# Altium footprint library cmut_conn.PcbLib: 1 footprints
Each footprint in its own frame and in the unit in brackets; x right, y up, seen from the top. Pads: shape width x height; smd on the part's side, far side on the other; paste and mask are expansions set on the pad; w line width, h text height; cw(c..) or ccw(c..) is an arc to the next point about the centre after c.
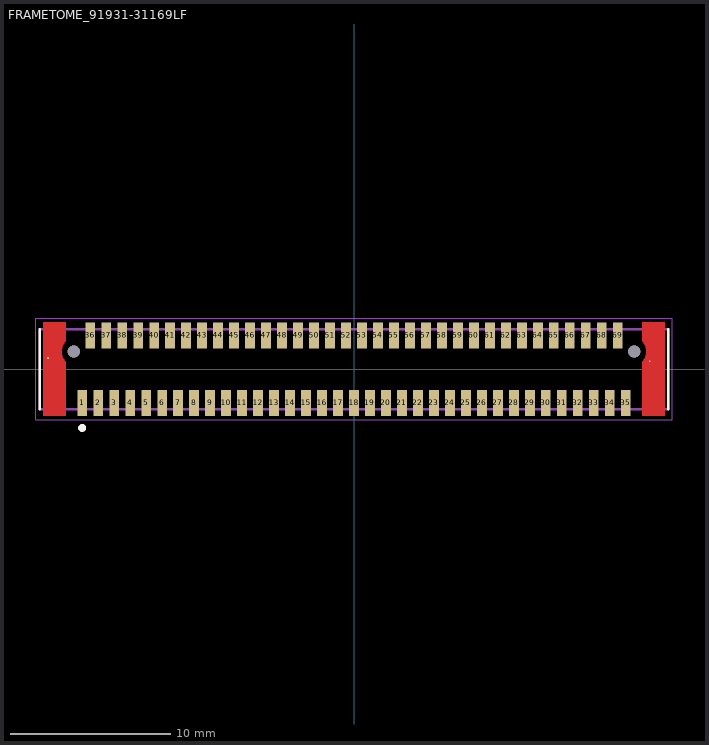
[diagram p0: the footprint, top view; thin cyan lines are the x and y axes]

## FRAMETOME_91931-31169LF [mm]
pads (73):
  rect 0.61x1.63 smd paste-2: 1(-17,-2.11) 2(-16,-2.11) 3(-15,-2.11) 4(-14,-2.11) 5(-13,-2.11) 6(-12,-2.11) 7(-11,-2.11) 8(-10,-2.11) 9(-9,-2.11) 10(-8,-2.11) 11(-7,-2.11) 12(-6,-2.11) 13(-5,-2.11) 14(-4,-2.11) 15(-3,-2.11) 16(-2,-2.11) 17(-1,-2.11) 18(0,-2.11) 19(1,-2.11) 20(2,-2.11) 21(3,-2.11) 22(4,-2.11) 23(5,-2.11) 24(6,-2.11) 25(7,-2.11) 26(8,-2.11) 27(9,-2.11) 28(10,-2.11) 29(11,-2.11) 30(12,-2.11) 31(13,-2.11) 32(14,-2.11) 33(15,-2.11) 34(16,-2.11) 35(17,-2.11) 36(-16.5,2.11) 37(-15.5,2.11) 38(-14.5,2.11) 39(-13.5,2.11) 40(-12.5,2.11) 41(-11.5,2.11) 42(-10.5,2.11) 43(-9.5,2.11) 44(-8.5,2.11) 45(-7.5,2.11) 46(-6.5,2.11) 47(-5.5,2.11) 48(-4.5,2.11) 49(-3.5,2.11) 50(-2.5,2.11) 51(-1.5,2.11) 52(-0.5,2.11) 53(0.5,2.11) 54(1.5,2.11) 55(2.5,2.11) 56(3.5,2.11) 57(4.5,2.11) 58(5.5,2.11) 59(6.5,2.11) 60(7.5,2.11) 61(8.5,2.11) 62(9.5,2.11) 63(10.5,2.11) 64(11.5,2.11) 65(12.5,2.11) 66(13.5,2.11) 67(14.5,2.11) 68(15.5,2.11) 69(16.5,2.11)
  rect 0.1x0.1 smd paste-1 mask+0: B1(18.5,0.5) B2(-19.14,0.7)
  round 0.76 hole 0.76 unplated: ""(-17.526,1.1) ""(17.526,1.1)
Top Layer:
  region: 19.42,-2.92 18.02,-2.92 18.02,0.465 18.052,0.5 18.082,0.536 18.11,0.574 18.137,0.614 18.161,0.654 18.183,0.696 18.203,0.739 18.221,0.783 18.236,0.828 18.249,0.873 18.26,0.919 18.269,0.966 18.275,1.013 18.278,1.06 18.28,1.108 18.278,1.155 18.275,1.202 18.269,1.249 18.26,1.296 18.249,1.342 18.236,1.387 18.221,1.432 18.203,1.476 18.183,1.519 18.161,1.561 18.137,1.601 18.11,1.641 18.082,1.679 18.052,1.715 18.02,1.75 18.02,2.93 19.42,2.93
  region: -18.02,1.745 -18.052,1.71 -18.082,1.674 -18.11,1.636 -18.137,1.596 -18.161,1.556 -18.183,1.514 -18.203,1.471 -18.221,1.427 -18.236,1.382 -18.249,1.337 -18.26,1.291 -18.269,1.244 -18.275,1.197 -18.278,1.15 -18.28,1.102 -18.278,1.055 -18.275,1.008 -18.269,0.961 -18.26,0.914 -18.249,0.868 -18.236,0.823 -18.221,0.778 -18.203,0.734 -18.183,0.691 -18.161,0.649 -18.137,0.609 -18.11,0.569 -18.082,0.531 -18.052,0.495 -18.02,0.46 -18.02,-2.925 -19.42,-2.925 -19.42,2.925 -18.02,2.925
Top Overlay:
  circle w0.3: c-17,-3.675 r0.1
  lines w0.152: -19.65,-2.5 -19.65,2.5 ; 19.65,-2.5 19.65,2.5
Top Paste:
  drawing of 71 lines, arcs and shapes, not listed
Top Solder:
  region: 19.52,-3.026 17.929,-3.026 17.929,3.025 19.52,3.025
  region: -17.92,-3.029 -19.544,-3.029 -19.544,3.025 -17.92,3.025
Top 3D Body:
  lines w0.152: -19.65,-2.5 -19.65,2.5 19.65,2.5 19.65,-2.5 -19.65,-2.5
Top Courtyard:
  lines w0.05: -19.9,-3.175 -19.9,3.175 19.9,3.175 19.9,-3.175 -19.9,-3.175